# Altium integrated library Altium_WCAP-CSGP_rev24b.IntLib: 1002 symbols (part 6 of 21)
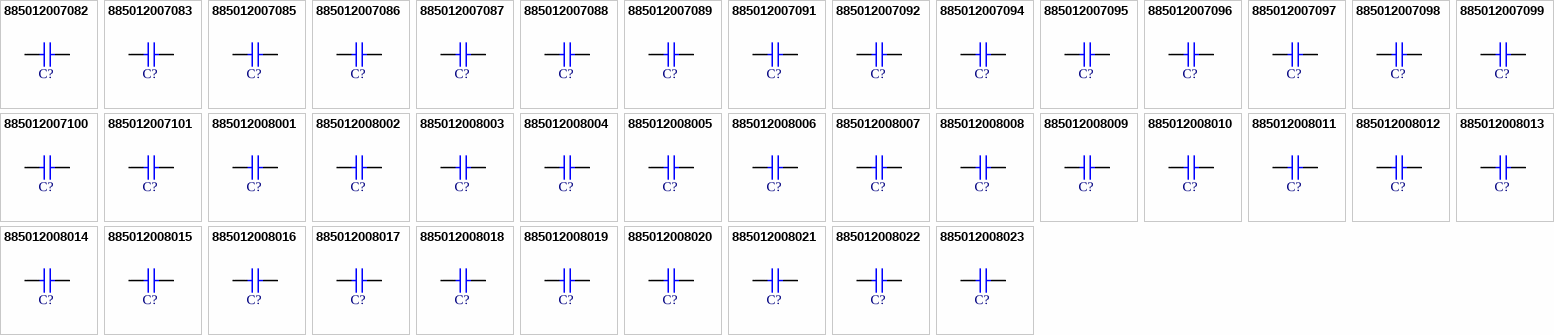
[diagram p30: symbols 885012007082 to 885012008023]

## 885012007085
designator C?, comment 330pF  (value not drawn)
WCAP-CSGP Multilayer Ceramic Chip Capacitor, General Purpose, size 0805, NP0, 330pF, 100VDC; Manufacturer Part Number: 885012007085; Manufacturer: Wurth Elektronik; Case/Size Code: 0805; Capacitance Tolerance: +/-5%; Insulation Resistance: 10GOhm; Q Factor: 1000; Rated Voltage (DC): 100V; Technical Reference: NP00805331J100DFCT10000; Category: Multilayer Ceramic Chip Capacitors; Match Code: WCAP-CSGP; ComponentLink1Description: Website Link; ComponentLink1URL: https://www.we-online.com/redexpert/article/885012007085?ad; ComponentLink2Description: Datasheet Link; ComponentLink2URL: https://www.we-online.com/redexpert/spec/885012007085?ad; Mount: Surface Mount; Operating Temperature Max: 125°C; Operating Temperature Min: -55°C; Packaging: Tape and Reel; Length: 2mm; Width: 1.25mm; Height: 0.6mm; Capacitance: 330pF; Ceramic Type: NP0
footprint WCAP-CSGP_0805_L2W1.25H0.6_Reflow
footprint WCAP-CSGP_0805_L2W1.25H0.6_Wave
simulation model 0805_885012007085_330pF
pins: 1, 2

## 885012007086
designator C?, comment 470pF  (value not drawn)
WCAP-CSGP Multilayer Ceramic Chip Capacitor, General Purpose, size 0805, NP0, 470pF, 100VDC; Manufacturer Part Number: 885012007086; Manufacturer: Wurth Elektronik; Case/Size Code: 0805; Capacitance Tolerance: +/-5%; Insulation Resistance: 10GOhm; Q Factor: 1000; Rated Voltage (DC): 100V; Technical Reference: NP00805471J100DFCT10000; Category: Multilayer Ceramic Chip Capacitors; Match Code: WCAP-CSGP; ComponentLink1Description: Website Link; ComponentLink1URL: https://www.we-online.com/redexpert/article/885012007086?ad; ComponentLink2Description: Datasheet Link; ComponentLink2URL: https://www.we-online.com/redexpert/spec/885012007086?ad; Mount: Surface Mount; Operating Temperature Max: 125°C; Operating Temperature Min: -55°C; Packaging: Tape and Reel; Length: 2mm; Width: 1.25mm; Height: 0.8mm; Capacitance: 470pF; Ceramic Type: NP0
footprint WCAP-CSGP_0805_L2W1.25H0.8_Reflow
footprint WCAP-CSGP_0805_L2W1.25H0.8_Wave
simulation model 0805_885012007086_470pF
pins: 1, 2

## 885012007087
designator C?, comment 680pF  (value not drawn)
WCAP-CSGP Multilayer Ceramic Chip Capacitor, General Purpose, size 0805, NP0, 680pF, 100VDC; Manufacturer Part Number: 885012007087; Manufacturer: Wurth Elektronik; Case/Size Code: 0805; Capacitance Tolerance: +/-5%; Insulation Resistance: 10GOhm; Q Factor: 1000; Rated Voltage (DC): 100V; Technical Reference: NP00805681J100DFCT10000; Category: Multilayer Ceramic Chip Capacitors; Match Code: WCAP-CSGP; ComponentLink1Description: Website Link; ComponentLink1URL: https://www.we-online.com/redexpert/article/885012007087?ad; ComponentLink2Description: Datasheet Link; ComponentLink2URL: https://www.we-online.com/redexpert/spec/885012007087?ad; Mount: Surface Mount; Operating Temperature Max: 125°C; Operating Temperature Min: -55°C; Packaging: Tape and Reel; Length: 2mm; Width: 1.25mm; Height: 0.8mm; Capacitance: 680pF; Ceramic Type: NP0
footprint WCAP-CSGP_0805_L2W1.25H0.8_Reflow
footprint WCAP-CSGP_0805_L2W1.25H0.8_Wave
simulation model 0805_885012007087_680pF
pins: 1, 2

## 885012007088
designator C?, comment 1nF  (value not drawn)
WCAP-CSGP Multilayer Ceramic Chip Capacitor, General Purpose, size 0805, NP0, 1nF, 100VDC; Manufacturer Part Number: 885012007088; Manufacturer: Wurth Elektronik; Case/Size Code: 0805; Capacitance Tolerance: +/-5%; Insulation Resistance: 10GOhm; Q Factor: 1000; Rated Voltage (DC): 100V; Technical Reference: NP00805102J100DFCT10000; Category: Multilayer Ceramic Chip Capacitors; Match Code: WCAP-CSGP; ComponentLink1Description: Website Link; ComponentLink1URL: https://www.we-online.com/redexpert/article/885012007088?ad; ComponentLink2Description: Datasheet Link; ComponentLink2URL: https://www.we-online.com/redexpert/spec/885012007088?ad; Mount: Surface Mount; Operating Temperature Max: 125°C; Operating Temperature Min: -55°C; Packaging: Tape and Reel; Length: 2mm; Width: 1.25mm; Height: 0.8mm; Capacitance: 1nF; Ceramic Type: NP0
footprint WCAP-CSGP_0805_L2W1.25H0.8_Reflow
footprint WCAP-CSGP_0805_L2W1.25H0.8_Wave
simulation model 0805_885012007088_1nF
pins: 1, 2

## 885012007089
designator C?, comment 1.5nF  (value not drawn)
WCAP-CSGP Multilayer Ceramic Chip Capacitor, General Purpose, size 0805, NP0, 1.5nF, 100VDC; Manufacturer Part Number: 885012007089; Manufacturer: Wurth Elektronik; Case/Size Code: 0805; Capacitance Tolerance: +/-5%; Insulation Resistance: 10GOhm; Q Factor: 1000; Rated Voltage (DC): 100V; Technical Reference: NP00805152J100DFCT10000; Category: Multilayer Ceramic Chip Capacitors; Match Code: WCAP-CSGP; ComponentLink1Description: Website Link; ComponentLink1URL: https://www.we-online.com/redexpert/article/885012007089?ad; ComponentLink2Description: Datasheet Link; ComponentLink2URL: https://www.we-online.com/redexpert/spec/885012007089?ad; Mount: Surface Mount; Operating Temperature Max: 125°C; Operating Temperature Min: -55°C; Packaging: Tape and Reel; Length: 2mm; Width: 1.25mm; Height: 0.8mm; Capacitance: 1.5nF; Ceramic Type: NP0
footprint WCAP-CSGP_0805_L2W1.25H0.8_Reflow
footprint WCAP-CSGP_0805_L2W1.25H0.8_Wave
simulation model 0805_885012007089_1.5nF
pins: 1, 2

## 885012007091
designator C?, comment 3.3nF  (value not drawn)
WCAP-CSGP Multilayer Ceramic Chip Capacitor, General Purpose, size 0805, NP0, 3.3nF, 100VDC; Manufacturer Part Number: 885012007091; Manufacturer: Wurth Elektronik; Case/Size Code: 0805; Capacitance Tolerance: +/-5%; Insulation Resistance: 10GOhm; Q Factor: 1000; Rated Voltage (DC): 100V; Technical Reference: NP00805332J100DFCT10000; Category: Multilayer Ceramic Chip Capacitors; Match Code: WCAP-CSGP; ComponentLink1Description: Website Link; ComponentLink1URL: https://www.we-online.com/redexpert/article/885012007091?ad; ComponentLink2Description: Datasheet Link; ComponentLink2URL: https://www.we-online.com/redexpert/spec/885012007091?ad; Mount: Surface Mount; Operating Temperature Max: 125°C; Operating Temperature Min: -55°C; Packaging: Tape and Reel; Length: 2mm; Width: 1.25mm; Height: 1.25mm; Capacitance: 3.3nF; Ceramic Type: NP0
footprint WCAP-CSGP_0805_L2W1.25H1.25
simulation model 0805_885012007091_3.3nF
pins: 1, 2

## 885012007092
designator C?, comment 4.7nF  (value not drawn)
WCAP-CSGP Multilayer Ceramic Chip Capacitor, General Purpose, size 0805, NP0, 4.7nF, 100VDC; Manufacturer Part Number: 885012007092; Manufacturer: Wurth Elektronik; Case/Size Code: 0805; Capacitance Tolerance: +/-5%; Insulation Resistance: 10GOhm; Q Factor: 1000; Rated Voltage (DC): 100V; Technical Reference: NP00805472J100DFCT10000; Category: Multilayer Ceramic Chip Capacitors; Match Code: WCAP-CSGP; ComponentLink1Description: Website Link; ComponentLink1URL: https://www.we-online.com/redexpert/article/885012007092?ad; ComponentLink2Description: Datasheet Link; ComponentLink2URL: https://www.we-online.com/redexpert/spec/885012007092?ad; Mount: Surface Mount; Operating Temperature Max: 125°C; Operating Temperature Min: -55°C; Packaging: Tape and Reel; Length: 2mm; Width: 1.25mm; Height: 1.25mm; Capacitance: 4.7nF; Ceramic Type: NP0
footprint WCAP-CSGP_0805_L2W1.25H1.25
simulation model 0805_885012007092_4.7nF
pins: 1, 2

## 885012007094
designator C?, comment 1pF  (value not drawn)
WCAP-CSGP Multilayer Ceramic Chip Capacitor, General Purpose, size 0805, NP0, 1pF, 100VDC; Manufacturer Part Number: 885012007094; Manufacturer: Wurth Elektronik; Case/Size Code: 0805; Capacitance Tolerance: +/-0.25pF; Insulation Resistance: 10GOhm; Q Factor: 420; Rated Voltage (DC): 100V; Technical Reference: NP008051R0C100DFCT10000; Category: Multilayer Ceramic Chip Capacitors; Match Code: WCAP-CSGP; ComponentLink1Description: Website Link; ComponentLink1URL: https://www.we-online.com/redexpert/article/885012007094?ad; ComponentLink2Description: Datasheet Link; ComponentLink2URL: https://www.we-online.com/redexpert/spec/885012007094?ad; Mount: Surface Mount; Operating Temperature Max: 125°C; Operating Temperature Min: -55°C; Packaging: Tape and Reel; Length: 2mm; Width: 1.25mm; Height: 0.6mm; Capacitance: 1pF; Ceramic Type: NP0
footprint WCAP-CSGP_0805_L2W1.25H0.6_Reflow
footprint WCAP-CSGP_0805_L2W1.25H0.6_Wave
pins: 1, 2

## 885012007095
designator C?, comment 3.3pF  (value not drawn)
WCAP-CSGP Multilayer Ceramic Chip Capacitor, General Purpose, size 0805, NP0, 3.3pF, 100VDC; Manufacturer Part Number: 885012007095; Manufacturer: Wurth Elektronik; Case/Size Code: 0805; Capacitance Tolerance: +/-0.25pF; Insulation Resistance: 10GOhm; Q Factor: 466; Rated Voltage (DC): 100V; Technical Reference: NP008053R3C100DFCT10000; Category: Multilayer Ceramic Chip Capacitors; Match Code: WCAP-CSGP; ComponentLink1Description: Website Link; ComponentLink1URL: https://www.we-online.com/redexpert/article/885012007095?ad; ComponentLink2Description: Datasheet Link; ComponentLink2URL: https://www.we-online.com/redexpert/spec/885012007095?ad; Mount: Surface Mount; Operating Temperature Max: 125°C; Operating Temperature Min: -55°C; Packaging: Tape and Reel; Length: 2mm; Width: 1.25mm; Height: 0.6mm; Capacitance: 3.3pF; Ceramic Type: NP0
footprint WCAP-CSGP_0805_L2W1.25H0.6_Reflow
footprint WCAP-CSGP_0805_L2W1.25H0.6_Wave
pins: 1, 2

## 885012007096
designator C?, comment 4.7pF  (value not drawn)
WCAP-CSGP Multilayer Ceramic Chip Capacitor, General Purpose, size 0805, NP0, 4.7pF, 100VDC; Manufacturer Part Number: 885012007096; Manufacturer: Wurth Elektronik; Case/Size Code: 0805; Capacitance Tolerance: +/-0.25pF; Insulation Resistance: 10GOhm; Q Factor: 494; Rated Voltage (DC): 100V; Technical Reference: NP008054R7C100DFCT10000; Category: Multilayer Ceramic Chip Capacitors; Match Code: WCAP-CSGP; ComponentLink1Description: Website Link; ComponentLink1URL: https://www.we-online.com/redexpert/article/885012007096?ad; ComponentLink2Description: Datasheet Link; ComponentLink2URL: https://www.we-online.com/redexpert/spec/885012007096?ad; Mount: Surface Mount; Operating Temperature Max: 125°C; Operating Temperature Min: -55°C; Packaging: Tape and Reel; Length: 2mm; Width: 1.25mm; Height: 0.6mm; Capacitance: 4.7pF; Ceramic Type: NP0
footprint WCAP-CSGP_0805_L2W1.25H0.6_Reflow
footprint WCAP-CSGP_0805_L2W1.25H0.6_Wave
pins: 1, 2

## 885012007097
designator C?, comment 1.5pF  (value not drawn)
WCAP-CSGP Multilayer Ceramic Chip Capacitor, General Purpose, size 0805, NP0, 1.5pF, 100VDC; Manufacturer Part Number: 885012007097; Manufacturer: Wurth Elektronik; Case/Size Code: 0805; Capacitance Tolerance: +/-0.25pF; Insulation Resistance: 10GOhm; Q Factor: 430; Rated Voltage (DC): 100V; Technical Reference: NP008051R5C100DFCT10000; Category: Multilayer Ceramic Chip Capacitors; Match Code: WCAP-CSGP; ComponentLink1Description: Website Link; ComponentLink1URL: https://www.we-online.com/redexpert/article/885012007097?ad; ComponentLink2Description: Datasheet Link; ComponentLink2URL: https://www.we-online.com/redexpert/spec/885012007097?ad; Mount: Surface Mount; Operating Temperature Max: 125°C; Operating Temperature Min: -55°C; Packaging: Tape and Reel; Length: 2mm; Width: 1.25mm; Height: 0.6mm; Capacitance: 1.5pF; Ceramic Type: NP0
footprint WCAP-CSGP_0805_L2W1.25H0.6_Reflow
footprint WCAP-CSGP_0805_L2W1.25H0.6_Wave
pins: 1, 2

## 885012007098
designator C?, comment 8.2pF  (value not drawn)
WCAP-CSGP Multilayer Ceramic Chip Capacitor, General Purpose, size 0805, NP0, 8.2pF, 100VDC; Manufacturer Part Number: 885012007098; Manufacturer: Wurth Elektronik; Case/Size Code: 0805; Capacitance Tolerance: +/-0.5pF; Insulation Resistance: 10GOhm; Q Factor: 564; Rated Voltage (DC): 100V; Technical Reference: NP008058R2D100DFCT10000; Category: Multilayer Ceramic Chip Capacitors; Match Code: WCAP-CSGP; ComponentLink1Description: Website Link; ComponentLink1URL: https://www.we-online.com/redexpert/article/885012007098?ad; ComponentLink2Description: Datasheet Link; ComponentLink2URL: https://www.we-online.com/redexpert/spec/885012007098?ad; Mount: Surface Mount; Operating Temperature Max: 125°C; Operating Temperature Min: -55°C; Packaging: Tape and Reel; Length: 2mm; Width: 1.25mm; Height: 0.6mm; Capacitance: 8.2pF; Ceramic Type: NP0
footprint WCAP-CSGP_0805_L2W1.25H0.6_Reflow
footprint WCAP-CSGP_0805_L2W1.25H0.6_Wave
pins: 1, 2

## 885012007099
designator C?, comment 0.5pF  (value not drawn)
WCAP-CSGP Multilayer Ceramic Chip Capacitor, General Purpose, size 0805, NP0, 0.5pF, 100VDC; Manufacturer Part Number: 885012007099; Manufacturer: Wurth Elektronik; Case/Size Code: 0805; Capacitance Tolerance: +/-0.25pF; Insulation Resistance: 10GOhm; Q Factor: 410; Rated Voltage (DC): 100V; Technical Reference: NP00805R50C100DFCT10000; Category: Multilayer Ceramic Chip Capacitors; Match Code: WCAP-CSGP; ComponentLink1Description: Website Link; ComponentLink1URL: https://www.we-online.com/redexpert/article/885012007099?ad; ComponentLink2Description: Datasheet Link; ComponentLink2URL: https://www.we-online.com/redexpert/spec/885012007099?ad; Mount: Surface Mount; Operating Temperature Max: 125°C; Operating Temperature Min: -55°C; Packaging: Tape and Reel; Length: 2mm; Width: 1.25mm; Height: 0.6mm; Capacitance: 0.5pF; Ceramic Type: NP0
footprint WCAP-CSGP_0805_L2W1.25H0.6_Reflow
footprint WCAP-CSGP_0805_L2W1.25H0.6_Wave
pins: 1, 2

## 885012007100
designator C?, comment 2.2pF  (value not drawn)
WCAP-CSGP Multilayer Ceramic Chip Capacitor, General Purpose, size 0805, NP0, 2.2pF, 100VDC; Manufacturer Part Number: 885012007100; Manufacturer: Wurth Elektronik; Case/Size Code: 0805; Capacitance Tolerance: +/-0.25pF; Insulation Resistance: 10GOhm; Q Factor: 444; Rated Voltage (DC): 100V; Technical Reference: NP008052R2C100DFCT10000; Category: Multilayer Ceramic Chip Capacitors; Match Code: WCAP-CSGP; ComponentLink1Description: Website Link; ComponentLink1URL: https://www.we-online.com/redexpert/article/885012007100?ad; ComponentLink2Description: Datasheet Link; ComponentLink2URL: https://www.we-online.com/redexpert/spec/885012007100?ad; Mount: Surface Mount; Operating Temperature Max: 125°C; Operating Temperature Min: -55°C; Packaging: Tape and Reel; Length: 2mm; Width: 1.25mm; Height: 0.6mm; Capacitance: 2.2pF; Ceramic Type: NP0
footprint WCAP-CSGP_0805_L2W1.25H0.6_Reflow
footprint WCAP-CSGP_0805_L2W1.25H0.6_Wave
pins: 1, 2

## 885012007101
designator C?, comment 5pF  (value not drawn)
WCAP-CSGP Multilayer Ceramic Chip Capacitor, General Purpose, size 0805, NP0, 5pF, 100VDC; Manufacturer Part Number: 885012007101; Manufacturer: Wurth Elektronik; Case/Size Code: 0805; Capacitance Tolerance: +/-0.25pF; Insulation Resistance: 10GOhm; Q Factor: 500; Rated Voltage (DC): 100V; Technical Reference: NP008055R0C100DFCT10000; Category: Multilayer Ceramic Chip Capacitors; Match Code: WCAP-CSGP; ComponentLink1Description: Website Link; ComponentLink1URL: https://www.we-online.com/redexpert/article/885012007101?ad; ComponentLink2Description: Datasheet Link; ComponentLink2URL: https://www.we-online.com/redexpert/spec/885012007101?ad; Mount: Surface Mount; Operating Temperature Max: 125°C; Operating Temperature Min: -55°C; Packaging: Tape and Reel; Length: 2mm; Width: 1.25mm; Height: 0.6mm; Capacitance: 5pF; Ceramic Type: NP0
footprint WCAP-CSGP_0805_L2W1.25H0.6_Reflow
footprint WCAP-CSGP_0805_L2W1.25H0.6_Wave
pins: 1, 2

## 885012008001
designator C?, comment 10pF  (value not drawn)
WCAP-CSGP Multilayer Ceramic Chip Capacitor, General Purpose, size 1206, NP0, 10pF, 10VDC; Manufacturer Part Number: 885012008001; Manufacturer: Wurth Elektronik; Case/Size Code: 1206; Capacitance Tolerance: +/-5%; Insulation Resistance: 10GOhm; Q Factor: 600; Rated Voltage (DC): 10V; Technical Reference: NP01206100J010DFCT10000; Category: Multilayer Ceramic Chip Capacitors; Match Code: WCAP-CSGP; ComponentLink1Description: Website Link; ComponentLink1URL: https://www.we-online.com/redexpert/article/885012008001?ad; ComponentLink2Description: Datasheet Link; ComponentLink2URL: https://www.we-online.com/redexpert/spec/885012008001?ad; Mount: Surface Mount; Operating Temperature Max: 125°C; Operating Temperature Min: -55°C; Packaging: Tape and Reel; Length: 3.2mm; Width: 1.6mm; Height: 0.8mm; Capacitance: 10pF; Ceramic Type: NP0
footprint WCAP-CSGP_1206_L3.2W1.6H0.8
simulation model 1206_885012008001_10pF
pins: 1, 2

## 885012008002
designator C?, comment 22pF  (value not drawn)
WCAP-CSGP Multilayer Ceramic Chip Capacitor, General Purpose, size 1206, NP0, 22pF, 10VDC; Manufacturer Part Number: 885012008002; Manufacturer: Wurth Elektronik; Case/Size Code: 1206; Capacitance Tolerance: +/-5%; Insulation Resistance: 10GOhm; Q Factor: 840; Rated Voltage (DC): 10V; Technical Reference: NP01206220J010DFCT10000; Category: Multilayer Ceramic Chip Capacitors; Match Code: WCAP-CSGP; ComponentLink1Description: Website Link; ComponentLink1URL: https://www.we-online.com/redexpert/article/885012008002?ad; ComponentLink2Description: Datasheet Link; ComponentLink2URL: https://www.we-online.com/redexpert/spec/885012008002?ad; Mount: Surface Mount; Operating Temperature Max: 125°C; Operating Temperature Min: -55°C; Packaging: Tape and Reel; Length: 3.2mm; Width: 1.6mm; Height: 0.8mm; Capacitance: 22pF; Ceramic Type: NP0
footprint WCAP-CSGP_1206_L3.2W1.6H0.8
simulation model 1206_885012008002_22pF
pins: 1, 2

## 885012008003
designator C?, comment 47pF  (value not drawn)
WCAP-CSGP Multilayer Ceramic Chip Capacitor, General Purpose, size 1206, NP0, 47pF, 10VDC; Manufacturer Part Number: 885012008003; Manufacturer: Wurth Elektronik; Case/Size Code: 1206; Capacitance Tolerance: +/-5%; Insulation Resistance: 10GOhm; Q Factor: 1000; Rated Voltage (DC): 10V; Technical Reference: NP01206470J010DFCT10000; Category: Multilayer Ceramic Chip Capacitors; Match Code: WCAP-CSGP; ComponentLink1Description: Website Link; ComponentLink1URL: https://www.we-online.com/redexpert/article/885012008003?ad; ComponentLink2Description: Datasheet Link; ComponentLink2URL: https://www.we-online.com/redexpert/spec/885012008003?ad; Mount: Surface Mount; Operating Temperature Max: 125°C; Operating Temperature Min: -55°C; Packaging: Tape and Reel; Length: 3.2mm; Width: 1.6mm; Height: 0.8mm; Capacitance: 47pF; Ceramic Type: NP0
footprint WCAP-CSGP_1206_L3.2W1.6H0.8
simulation model 1206_885012008003_47pF
pins: 1, 2

## 885012008004
designator C?, comment 100pF  (value not drawn)
WCAP-CSGP Multilayer Ceramic Chip Capacitor, General Purpose, size 1206, NP0, 100pF, 10VDC; Manufacturer Part Number: 885012008004; Manufacturer: Wurth Elektronik; Case/Size Code: 1206; Capacitance Tolerance: +/-5%; Insulation Resistance: 10GOhm; Q Factor: 1000; Rated Voltage (DC): 10V; Technical Reference: NP01206101J010DFCT10000; Category: Multilayer Ceramic Chip Capacitors; Match Code: WCAP-CSGP; ComponentLink1Description: Website Link; ComponentLink1URL: https://www.we-online.com/redexpert/article/885012008004?ad; ComponentLink2Description: Datasheet Link; ComponentLink2URL: https://www.we-online.com/redexpert/spec/885012008004?ad; Mount: Surface Mount; Operating Temperature Max: 125°C; Operating Temperature Min: -55°C; Packaging: Tape and Reel; Length: 3.2mm; Width: 1.6mm; Height: 0.8mm; Capacitance: 100pF; Ceramic Type: NP0
footprint WCAP-CSGP_1206_L3.2W1.6H0.8
simulation model 1206_885012008004_100pF
pins: 1, 2

## 885012008005
designator C?, comment 470pF  (value not drawn)
WCAP-CSGP Multilayer Ceramic Chip Capacitor, General Purpose, size 1206, NP0, 470pF, 10VDC; Manufacturer Part Number: 885012008005; Manufacturer: Wurth Elektronik; Case/Size Code: 1206; Capacitance Tolerance: +/-5%; Insulation Resistance: 10GOhm; Q Factor: 1000; Rated Voltage (DC): 10V; Technical Reference: NP01206471J010DFCT10000; Category: Multilayer Ceramic Chip Capacitors; Match Code: WCAP-CSGP; ComponentLink1Description: Website Link; ComponentLink1URL: https://www.we-online.com/redexpert/article/885012008005?ad; ComponentLink2Description: Datasheet Link; ComponentLink2URL: https://www.we-online.com/redexpert/spec/885012008005?ad; Mount: Surface Mount; Operating Temperature Max: 125°C; Operating Temperature Min: -55°C; Packaging: Tape and Reel; Length: 3.2mm; Width: 1.6mm; Height: 0.8mm; Capacitance: 470pF; Ceramic Type: NP0
footprint WCAP-CSGP_1206_L3.2W1.6H0.8
simulation model 1206_885012008005_470pF
pins: 1, 2

## 885012008006
designator C?, comment 2.2nF  (value not drawn)
WCAP-CSGP Multilayer Ceramic Chip Capacitor, General Purpose, size 1206, NP0, 2.2nF, 10VDC; Manufacturer Part Number: 885012008006; Manufacturer: Wurth Elektronik; Case/Size Code: 1206; Capacitance Tolerance: +/-5%; Insulation Resistance: 10GOhm; Q Factor: 1000; Rated Voltage (DC): 10V; Technical Reference: NP01206222J010DFCT10000; Category: Multilayer Ceramic Chip Capacitors; Match Code: WCAP-CSGP; ComponentLink1Description: Website Link; ComponentLink1URL: https://www.we-online.com/redexpert/article/885012008006?ad; ComponentLink2Description: Datasheet Link; ComponentLink2URL: https://www.we-online.com/redexpert/spec/885012008006?ad; Mount: Surface Mount; Operating Temperature Max: 125°C; Operating Temperature Min: -55°C; Packaging: Tape and Reel; Length: 3.2mm; Width: 1.6mm; Height: 0.8mm; Capacitance: 2.2nF; Ceramic Type: NP0
footprint WCAP-CSGP_1206_L3.2W1.6H0.8
simulation model 1206_885012008006_2.2nF
pins: 1, 2

## 885012008007
designator C?, comment 6.8nF  (value not drawn)
WCAP-CSGP Multilayer Ceramic Chip Capacitor, General Purpose, size 1206, NP0, 6.8nF, 10VDC; Manufacturer Part Number: 885012008007; Manufacturer: Wurth Elektronik; Case/Size Code: 1206; Capacitance Tolerance: +/-5%; Insulation Resistance: 10GOhm; Q Factor: 1000; Rated Voltage (DC): 10V; Technical Reference: NP01206682J010DFCT10000; Category: Multilayer Ceramic Chip Capacitors; Match Code: WCAP-CSGP; ComponentLink1Description: Website Link; ComponentLink1URL: https://www.we-online.com/redexpert/article/885012008007?ad; ComponentLink2Description: Datasheet Link; ComponentLink2URL: https://www.we-online.com/redexpert/spec/885012008007?ad; Mount: Surface Mount; Operating Temperature Max: 125°C; Operating Temperature Min: -55°C; Packaging: Tape and Reel; Length: 3.2mm; Width: 1.6mm; Height: 0.95mm; Capacitance: 6.8nF; Ceramic Type: NP0
footprint WCAP-CSGP_1206_L3.2W1.6H0.95
simulation model 1206_885012008007_6.8nF
pins: 1, 2

## 885012008008
designator C?, comment 10nF  (value not drawn)
WCAP-CSGP Multilayer Ceramic Chip Capacitor, General Purpose, size 1206, NP0, 10nF, 10VDC; Manufacturer Part Number: 885012008008; Manufacturer: Wurth Elektronik; Case/Size Code: 1206; Capacitance Tolerance: +/-5%; Insulation Resistance: 10GOhm; Q Factor: 1000; Rated Voltage (DC): 10V; Technical Reference: NP01206103J010DFCT10000; Category: Multilayer Ceramic Chip Capacitors; Match Code: WCAP-CSGP; ComponentLink1Description: Website Link; ComponentLink1URL: https://www.we-online.com/redexpert/article/885012008008?ad; ComponentLink2Description: Datasheet Link; ComponentLink2URL: https://www.we-online.com/redexpert/spec/885012008008?ad; Mount: Surface Mount; Operating Temperature Max: 125°C; Operating Temperature Min: -55°C; Packaging: Tape and Reel; Length: 3.2mm; Width: 1.6mm; Height: 1.25mm; Capacitance: 10nF; Ceramic Type: NP0
footprint WCAP-CSGP_1206_L3.2W1.6H1.25
simulation model 1206_885012008008_10nF
pins: 1, 2

## 885012008009
designator C?, comment 22nF  (value not drawn)
WCAP-CSGP Multilayer Ceramic Chip Capacitor, General Purpose, size 1206, NP0, 22nF, 10VDC; Manufacturer Part Number: 885012008009; Manufacturer: Wurth Elektronik; Case/Size Code: 1206; Capacitance Tolerance: +/-5%; Insulation Resistance: 10GOhm; Q Factor: 1000; Rated Voltage (DC): 10V; Technical Reference: NP01206223J010DFCT10000; Category: Multilayer Ceramic Chip Capacitors; Match Code: WCAP-CSGP; ComponentLink1Description: Website Link; ComponentLink1URL: https://www.we-online.com/redexpert/article/885012008009?ad; ComponentLink2Description: Datasheet Link; ComponentLink2URL: https://www.we-online.com/redexpert/spec/885012008009?ad; Mount: Surface Mount; Operating Temperature Max: 125°C; Operating Temperature Min: -55°C; Packaging: Tape and Reel; Length: 3.2mm; Width: 1.6mm; Height: 1.6mm; Capacitance: 22nF; Ceramic Type: NP0
footprint WCAP-CSGP_1206_L3.2W1.6H1.6
simulation model 1206_885012008009_22nF
pins: 1, 2

## 885012008010
designator C?, comment 33nF  (value not drawn)
WCAP-CSGP Multilayer Ceramic Chip Capacitor, General Purpose, size 1206, NP0, 33nF, 10VDC; Manufacturer Part Number: 885012008010; Manufacturer: Wurth Elektronik; Case/Size Code: 1206; Capacitance Tolerance: +/-5%; Insulation Resistance: 10GOhm; Q Factor: 1000; Rated Voltage (DC): 10V; Technical Reference: NP01206333J010DFCT10000; Category: Multilayer Ceramic Chip Capacitors; Match Code: WCAP-CSGP; ComponentLink1Description: Website Link; ComponentLink1URL: https://www.we-online.com/redexpert/article/885012008010?ad; ComponentLink2Description: Datasheet Link; ComponentLink2URL: https://www.we-online.com/redexpert/spec/885012008010?ad; Mount: Surface Mount; Operating Temperature Max: 125°C; Operating Temperature Min: -55°C; Packaging: Tape and Reel; Length: 3.2mm; Width: 1.6mm; Height: 1.6mm; Capacitance: 33nF; Ceramic Type: NP0
footprint WCAP-CSGP_1206_L3.2W1.6H1.6
simulation model 1206_885012008010_33nF
pins: 1, 2

## 885012008011
designator C?, comment 22pF  (value not drawn)
WCAP-CSGP Multilayer Ceramic Chip Capacitor, General Purpose, size 1206, NP0, 22pF, 16VDC; Manufacturer Part Number: 885012008011; Manufacturer: Wurth Elektronik; Case/Size Code: 1206; Capacitance Tolerance: +/-5%; Insulation Resistance: 10GOhm; Q Factor: 840; Rated Voltage (DC): 16V; Technical Reference: NP01206220J016DFCT10000; Category: Multilayer Ceramic Chip Capacitors; Match Code: WCAP-CSGP; ComponentLink1Description: Website Link; ComponentLink1URL: https://www.we-online.com/redexpert/article/885012008011?ad; ComponentLink2Description: Datasheet Link; ComponentLink2URL: https://www.we-online.com/redexpert/spec/885012008011?ad; Mount: Surface Mount; Operating Temperature Max: 125°C; Operating Temperature Min: -55°C; Packaging: Tape and Reel; Length: 3.2mm; Width: 1.6mm; Height: 0.8mm; Capacitance: 22pF; Ceramic Type: NP0
footprint WCAP-CSGP_1206_L3.2W1.6H0.8
simulation model 1206_885012008011_22pF
pins: 1, 2

## 885012008012
designator C?, comment 100pF  (value not drawn)
WCAP-CSGP Multilayer Ceramic Chip Capacitor, General Purpose, size 1206, NP0, 100pF, 16VDC; Manufacturer Part Number: 885012008012; Manufacturer: Wurth Elektronik; Case/Size Code: 1206; Capacitance Tolerance: +/-5%; Insulation Resistance: 10GOhm; Q Factor: 1000; Rated Voltage (DC): 16V; Technical Reference: NP01206101J016DFCT10000; Category: Multilayer Ceramic Chip Capacitors; Match Code: WCAP-CSGP; ComponentLink1Description: Website Link; ComponentLink1URL: https://www.we-online.com/redexpert/article/885012008012?ad; ComponentLink2Description: Datasheet Link; ComponentLink2URL: https://www.we-online.com/redexpert/spec/885012008012?ad; Mount: Surface Mount; Operating Temperature Max: 125°C; Operating Temperature Min: -55°C; Packaging: Tape and Reel; Length: 3.2mm; Width: 1.6mm; Height: 0.8mm; Capacitance: 100pF; Ceramic Type: NP0
footprint WCAP-CSGP_1206_L3.2W1.6H0.8
simulation model 1206_885012008012_100pF
pins: 1, 2

## 885012008013
designator C?, comment 150pF  (value not drawn)
WCAP-CSGP Multilayer Ceramic Chip Capacitor, General Purpose, size 1206, NP0, 150pF, 16VDC; Manufacturer Part Number: 885012008013; Manufacturer: Wurth Elektronik; Case/Size Code: 1206; Capacitance Tolerance: +/-5%; Insulation Resistance: 10GOhm; Q Factor: 1000; Rated Voltage (DC): 16V; Technical Reference: NP01206151J016DFCT10000; Category: Multilayer Ceramic Chip Capacitors; Match Code: WCAP-CSGP; ComponentLink1Description: Website Link; ComponentLink1URL: https://www.we-online.com/redexpert/article/885012008013?ad; ComponentLink2Description: Datasheet Link; ComponentLink2URL: https://www.we-online.com/redexpert/spec/885012008013?ad; Mount: Surface Mount; Operating Temperature Max: 125°C; Operating Temperature Min: -55°C; Packaging: Tape and Reel; Length: 3.2mm; Width: 1.6mm; Height: 0.8mm; Capacitance: 150pF; Ceramic Type: NP0
footprint WCAP-CSGP_1206_L3.2W1.6H0.8
simulation model 1206_885012008013_150pF
pins: 1, 2

## 885012008014
designator C?, comment 220pF  (value not drawn)
WCAP-CSGP Multilayer Ceramic Chip Capacitor, General Purpose, size 1206, NP0, 220pF, 16VDC; Manufacturer Part Number: 885012008014; Manufacturer: Wurth Elektronik; Case/Size Code: 1206; Capacitance Tolerance: +/-5%; Insulation Resistance: 10GOhm; Q Factor: 1000; Rated Voltage (DC): 16V; Technical Reference: NP01206221J016DFCT10000; Category: Multilayer Ceramic Chip Capacitors; Match Code: WCAP-CSGP; ComponentLink1Description: Website Link; ComponentLink1URL: https://www.we-online.com/redexpert/article/885012008014?ad; ComponentLink2Description: Datasheet Link; ComponentLink2URL: https://www.we-online.com/redexpert/spec/885012008014?ad; Mount: Surface Mount; Operating Temperature Max: 125°C; Operating Temperature Min: -55°C; Packaging: Tape and Reel; Length: 3.2mm; Width: 1.6mm; Height: 0.8mm; Capacitance: 220pF; Ceramic Type: NP0
footprint WCAP-CSGP_1206_L3.2W1.6H0.8
simulation model 1206_885012008014_220pF
pins: 1, 2

## 885012008015
designator C?, comment 2.2nF  (value not drawn)
WCAP-CSGP Multilayer Ceramic Chip Capacitor, General Purpose, size 1206, NP0, 2.2nF, 16VDC; Manufacturer Part Number: 885012008015; Manufacturer: Wurth Elektronik; Case/Size Code: 1206; Capacitance Tolerance: +/-5%; Insulation Resistance: 10GOhm; Q Factor: 1000; Rated Voltage (DC): 16V; Technical Reference: NP01206222J016DFCT10000; Category: Multilayer Ceramic Chip Capacitors; Match Code: WCAP-CSGP; ComponentLink1Description: Website Link; ComponentLink1URL: https://www.we-online.com/redexpert/article/885012008015?ad; ComponentLink2Description: Datasheet Link; ComponentLink2URL: https://www.we-online.com/redexpert/spec/885012008015?ad; Mount: Surface Mount; Operating Temperature Max: 125°C; Operating Temperature Min: -55°C; Packaging: Tape and Reel; Length: 3.2mm; Width: 1.6mm; Height: 0.8mm; Capacitance: 2.2nF; Ceramic Type: NP0
footprint WCAP-CSGP_1206_L3.2W1.6H0.8
simulation model 1206_885012008015_2.2nF
pins: 1, 2

## 885012008016
designator C?, comment 6.8nF  (value not drawn)
WCAP-CSGP Multilayer Ceramic Chip Capacitor, General Purpose, size 1206, NP0, 6.8nF, 16VDC; Manufacturer Part Number: 885012008016; Manufacturer: Wurth Elektronik; Case/Size Code: 1206; Capacitance Tolerance: +/-5%; Insulation Resistance: 10GOhm; Q Factor: 1000; Rated Voltage (DC): 16V; Technical Reference: NP01206682J016DFCT10000; Category: Multilayer Ceramic Chip Capacitors; Match Code: WCAP-CSGP; ComponentLink1Description: Website Link; ComponentLink1URL: https://www.we-online.com/redexpert/article/885012008016?ad; ComponentLink2Description: Datasheet Link; ComponentLink2URL: https://www.we-online.com/redexpert/spec/885012008016?ad; Mount: Surface Mount; Operating Temperature Max: 125°C; Operating Temperature Min: -55°C; Packaging: Tape and Reel; Length: 3.2mm; Width: 1.6mm; Height: 0.95mm; Capacitance: 6.8nF; Ceramic Type: NP0
footprint WCAP-CSGP_1206_L3.2W1.6H0.95
simulation model 1206_885012008016_6.8nF
pins: 1, 2

## 885012008017
designator C?, comment 10nF  (value not drawn)
WCAP-CSGP Multilayer Ceramic Chip Capacitor, General Purpose, size 1206, NP0, 10nF, 16VDC; Manufacturer Part Number: 885012008017; Manufacturer: Wurth Elektronik; Case/Size Code: 1206; Capacitance Tolerance: +/-5%; Insulation Resistance: 10GOhm; Q Factor: 1000; Rated Voltage (DC): 16V; Technical Reference: NP01206103J016DFCT10000; Category: Multilayer Ceramic Chip Capacitors; Match Code: WCAP-CSGP; ComponentLink1Description: Website Link; ComponentLink1URL: https://www.we-online.com/redexpert/article/885012008017?ad; ComponentLink2Description: Datasheet Link; ComponentLink2URL: https://www.we-online.com/redexpert/spec/885012008017?ad; Mount: Surface Mount; Operating Temperature Max: 125°C; Operating Temperature Min: -55°C; Packaging: Tape and Reel; Length: 3.2mm; Width: 1.6mm; Height: 1.25mm; Capacitance: 10nF; Ceramic Type: NP0
footprint WCAP-CSGP_1206_L3.2W1.6H1.25
simulation model 1206_885012008017_10nF
pins: 1, 2

## 885012008018
designator C?, comment 2.2pF  (value not drawn)
WCAP-CSGP Multilayer Ceramic Chip Capacitor, General Purpose, size 1206, NP0, 2.2pF, 25VDC; Manufacturer Part Number: 885012008018; Manufacturer: Wurth Elektronik; Case/Size Code: 1206; Capacitance Tolerance: +/-0.5pF; Insulation Resistance: 10GOhm; Q Factor: 444; Rated Voltage (DC): 25V; Technical Reference: NP012062R2D025DFCT10000; Category: Multilayer Ceramic Chip Capacitors; Match Code: WCAP-CSGP; ComponentLink1Description: Website Link; ComponentLink1URL: https://www.we-online.com/redexpert/article/885012008018?ad; ComponentLink2Description: Datasheet Link; ComponentLink2URL: https://www.we-online.com/redexpert/spec/885012008018?ad; Mount: Surface Mount; Operating Temperature Max: 125°C; Operating Temperature Min: -55°C; Packaging: Tape and Reel; Length: 3.2mm; Width: 1.6mm; Height: 0.8mm; Capacitance: 2.2pF; Ceramic Type: NP0
footprint WCAP-CSGP_1206_L3.2W1.6H0.8
pins: 1, 2

## 885012008019
designator C?, comment 10pF  (value not drawn)
WCAP-CSGP Multilayer Ceramic Chip Capacitor, General Purpose, size 1206, NP0, 10pF, 25VDC; Manufacturer Part Number: 885012008019; Manufacturer: Wurth Elektronik; Case/Size Code: 1206; Capacitance Tolerance: +/-5%; Insulation Resistance: 10GOhm; Q Factor: 600; Rated Voltage (DC): 25V; Technical Reference: NP01206100J025DFCT10000; Category: Multilayer Ceramic Chip Capacitors; Match Code: WCAP-CSGP; ComponentLink1Description: Website Link; ComponentLink1URL: https://www.we-online.com/redexpert/article/885012008019?ad; ComponentLink2Description: Datasheet Link; ComponentLink2URL: https://www.we-online.com/redexpert/spec/885012008019?ad; Mount: Surface Mount; Operating Temperature Max: 125°C; Operating Temperature Min: -55°C; Packaging: Tape and Reel; Length: 3.2mm; Width: 1.6mm; Height: 0.8mm; Capacitance: 10pF; Ceramic Type: NP0
footprint WCAP-CSGP_1206_L3.2W1.6H0.8
simulation model 1206_885012008019_10pF
pins: 1, 2

## 885012008020
designator C?, comment 33pF  (value not drawn)
WCAP-CSGP Multilayer Ceramic Chip Capacitor, General Purpose, size 1206, NP0, 33pF, 25VDC; Manufacturer Part Number: 885012008020; Manufacturer: Wurth Elektronik; Case/Size Code: 1206; Capacitance Tolerance: +/-5%; Insulation Resistance: 10GOhm; Q Factor: 1000; Rated Voltage (DC): 25V; Technical Reference: NP01206330J025DFCT10000; Category: Multilayer Ceramic Chip Capacitors; Match Code: WCAP-CSGP; ComponentLink1Description: Website Link; ComponentLink1URL: https://www.we-online.com/redexpert/article/885012008020?ad; ComponentLink2Description: Datasheet Link; ComponentLink2URL: https://www.we-online.com/redexpert/spec/885012008020?ad; Mount: Surface Mount; Operating Temperature Max: 125°C; Operating Temperature Min: -55°C; Packaging: Tape and Reel; Length: 3.2mm; Width: 1.6mm; Height: 0.8mm; Capacitance: 33pF; Ceramic Type: NP0
footprint WCAP-CSGP_1206_L3.2W1.6H0.8
simulation model 1206_885012008020_33pF
pins: 1, 2

## 885012008021
designator C?, comment 47pF  (value not drawn)
WCAP-CSGP Multilayer Ceramic Chip Capacitor, General Purpose, size 1206, NP0, 47pF, 25VDC; Manufacturer Part Number: 885012008021; Manufacturer: Wurth Elektronik; Case/Size Code: 1206; Capacitance Tolerance: +/-5%; Insulation Resistance: 10GOhm; Q Factor: 1000; Rated Voltage (DC): 25V; Technical Reference: NP01206470J025DFCT10000; Category: Multilayer Ceramic Chip Capacitors; Match Code: WCAP-CSGP; ComponentLink1Description: Website Link; ComponentLink1URL: https://www.we-online.com/redexpert/article/885012008021?ad; ComponentLink2Description: Datasheet Link; ComponentLink2URL: https://www.we-online.com/redexpert/spec/885012008021?ad; Mount: Surface Mount; Operating Temperature Max: 125°C; Operating Temperature Min: -55°C; Packaging: Tape and Reel; Length: 3.2mm; Width: 1.6mm; Height: 0.8mm; Capacitance: 47pF; Ceramic Type: NP0
footprint WCAP-CSGP_1206_L3.2W1.6H0.8
simulation model 1206_885012008021_47pF
pins: 1, 2

## 885012008022
designator C?, comment 68pF  (value not drawn)
WCAP-CSGP Multilayer Ceramic Chip Capacitor, General Purpose, size 1206, NP0, 68pF, 25VDC; Manufacturer Part Number: 885012008022; Manufacturer: Wurth Elektronik; Case/Size Code: 1206; Capacitance Tolerance: +/-5%; Insulation Resistance: 10GOhm; Q Factor: 1000; Rated Voltage (DC): 25V; Technical Reference: NP01206680J025DFCT10000; Category: Multilayer Ceramic Chip Capacitors; Match Code: WCAP-CSGP; ComponentLink1Description: Website Link; ComponentLink1URL: https://www.we-online.com/redexpert/article/885012008022?ad; ComponentLink2Description: Datasheet Link; ComponentLink2URL: https://www.we-online.com/redexpert/spec/885012008022?ad; Mount: Surface Mount; Operating Temperature Max: 125°C; Operating Temperature Min: -55°C; Packaging: Tape and Reel; Length: 3.2mm; Width: 1.6mm; Height: 0.8mm; Capacitance: 68pF; Ceramic Type: NP0
footprint WCAP-CSGP_1206_L3.2W1.6H0.8
simulation model 1206_885012008022_68pF
pins: 1, 2

## 885012008023
designator C?, comment 100pF  (value not drawn)
WCAP-CSGP Multilayer Ceramic Chip Capacitor, General Purpose, size 1206, NP0, 100pF, 25VDC; Manufacturer Part Number: 885012008023; Manufacturer: Wurth Elektronik; Case/Size Code: 1206; Capacitance Tolerance: +/-5%; Insulation Resistance: 10GOhm; Q Factor: 1000; Rated Voltage (DC): 25V; Technical Reference: NP01206101J025DFCT10000; Category: Multilayer Ceramic Chip Capacitors; Match Code: WCAP-CSGP; ComponentLink1Description: Website Link; ComponentLink1URL: https://www.we-online.com/redexpert/article/885012008023?ad; ComponentLink2Description: Datasheet Link; ComponentLink2URL: https://www.we-online.com/redexpert/spec/885012008023?ad; Mount: Surface Mount; Operating Temperature Max: 125°C; Operating Temperature Min: -55°C; Packaging: Tape and Reel; Length: 3.2mm; Width: 1.6mm; Height: 0.8mm; Capacitance: 100pF; Ceramic Type: NP0
footprint WCAP-CSGP_1206_L3.2W1.6H0.8
simulation model 1206_885012008023_100pF
pins: 1, 2

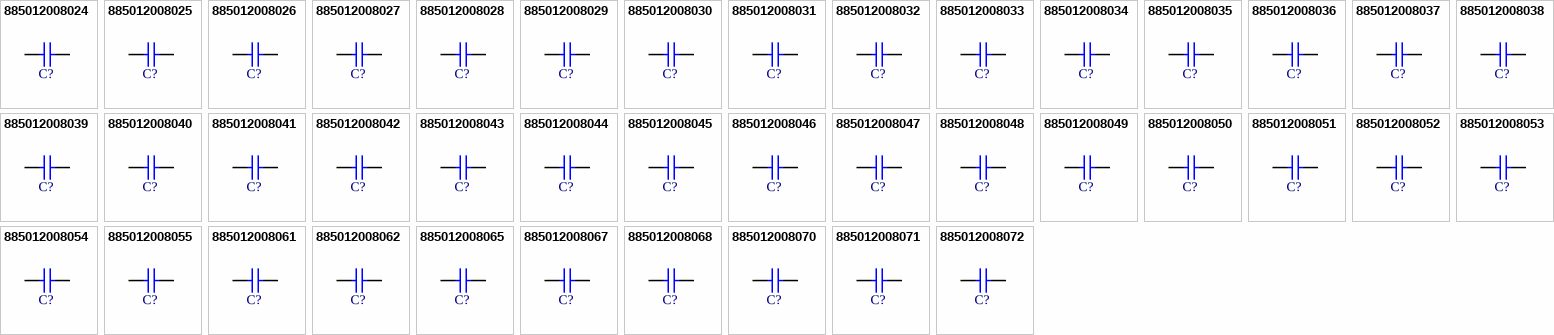
[diagram p7: symbols 885012008024 to 885012008072]

## 885012008024
designator C?, comment 330pF  (value not drawn)
WCAP-CSGP Multilayer Ceramic Chip Capacitor, General Purpose, size 1206, NP0, 330pF, 25VDC; Manufacturer Part Number: 885012008024; Manufacturer: Wurth Elektronik; Case/Size Code: 1206; Capacitance Tolerance: +/-5%; Insulation Resistance: 10GOhm; Q Factor: 1000; Rated Voltage (DC): 25V; Technical Reference: NP01206331J025DFCT10000; Category: Multilayer Ceramic Chip Capacitors; Match Code: WCAP-CSGP; ComponentLink1Description: Website Link; ComponentLink1URL: https://www.we-online.com/redexpert/article/885012008024?ad; ComponentLink2Description: Datasheet Link; ComponentLink2URL: https://www.we-online.com/redexpert/spec/885012008024?ad; Mount: Surface Mount; Operating Temperature Max: 125°C; Operating Temperature Min: -55°C; Packaging: Tape and Reel; Length: 3.2mm; Width: 1.6mm; Height: 0.8mm; Capacitance: 330pF; Ceramic Type: NP0
footprint WCAP-CSGP_1206_L3.2W1.6H0.8
simulation model 1206_885012008024_330pF
pins: 1, 2

## 885012008025
designator C?, comment 470pF  (value not drawn)
WCAP-CSGP Multilayer Ceramic Chip Capacitor, General Purpose, size 1206, NP0, 470pF, 25VDC; Manufacturer Part Number: 885012008025; Manufacturer: Wurth Elektronik; Case/Size Code: 1206; Capacitance Tolerance: +/-5%; Insulation Resistance: 10GOhm; Q Factor: 1000; Rated Voltage (DC): 25V; Technical Reference: NP01206471J025DFCT10000; Category: Multilayer Ceramic Chip Capacitors; Match Code: WCAP-CSGP; ComponentLink1Description: Website Link; ComponentLink1URL: https://www.we-online.com/redexpert/article/885012008025?ad; ComponentLink2Description: Datasheet Link; ComponentLink2URL: https://www.we-online.com/redexpert/spec/885012008025?ad; Mount: Surface Mount; Operating Temperature Max: 125°C; Operating Temperature Min: -55°C; Packaging: Tape and Reel; Length: 3.2mm; Width: 1.6mm; Height: 0.8mm; Capacitance: 470pF; Ceramic Type: NP0
footprint WCAP-CSGP_1206_L3.2W1.6H0.8
simulation model 1206_885012008025_470pF
pins: 1, 2

## 885012008026
designator C?, comment 1nF  (value not drawn)
WCAP-CSGP Multilayer Ceramic Chip Capacitor, General Purpose, size 1206, NP0, 1nF, 25VDC; Manufacturer Part Number: 885012008026; Manufacturer: Wurth Elektronik; Case/Size Code: 1206; Capacitance Tolerance: +/-5%; Insulation Resistance: 10GOhm; Q Factor: 1000; Rated Voltage (DC): 25V; Technical Reference: NP01206102J025DFCT10000; Category: Multilayer Ceramic Chip Capacitors; Match Code: WCAP-CSGP; ComponentLink1Description: Website Link; ComponentLink1URL: https://www.we-online.com/redexpert/article/885012008026?ad; ComponentLink2Description: Datasheet Link; ComponentLink2URL: https://www.we-online.com/redexpert/spec/885012008026?ad; Mount: Surface Mount; Operating Temperature Max: 125°C; Operating Temperature Min: -55°C; Packaging: Tape and Reel; Length: 3.2mm; Width: 1.6mm; Height: 0.8mm; Capacitance: 1nF; Ceramic Type: NP0
footprint WCAP-CSGP_1206_L3.2W1.6H0.8
simulation model 1206_885012008026_1nF
pins: 1, 2

## 885012008027
designator C?, comment 2.2nF  (value not drawn)
WCAP-CSGP Multilayer Ceramic Chip Capacitor, General Purpose, size 1206, NP0, 2.2nF, 25VDC; Manufacturer Part Number: 885012008027; Manufacturer: Wurth Elektronik; Case/Size Code: 1206; Capacitance Tolerance: +/-5%; Insulation Resistance: 10GOhm; Q Factor: 1000; Rated Voltage (DC): 25V; Technical Reference: NP01206222J025DFCT10000; Category: Multilayer Ceramic Chip Capacitors; Match Code: WCAP-CSGP; ComponentLink1Description: Website Link; ComponentLink1URL: https://www.we-online.com/redexpert/article/885012008027?ad; ComponentLink2Description: Datasheet Link; ComponentLink2URL: https://www.we-online.com/redexpert/spec/885012008027?ad; Mount: Surface Mount; Operating Temperature Max: 125°C; Operating Temperature Min: -55°C; Packaging: Tape and Reel; Length: 3.2mm; Width: 1.6mm; Height: 0.8mm; Capacitance: 2.2nF; Ceramic Type: NP0
footprint WCAP-CSGP_1206_L3.2W1.6H0.8
simulation model 1206_885012008027_2.2nF
pins: 1, 2

## 885012008028
designator C?, comment 4.7nF  (value not drawn)
WCAP-CSGP Multilayer Ceramic Chip Capacitor, General Purpose, size 1206, NP0, 4.7nF, 25VDC; Manufacturer Part Number: 885012008028; Manufacturer: Wurth Elektronik; Case/Size Code: 1206; Capacitance Tolerance: +/-5%; Insulation Resistance: 10GOhm; Q Factor: 1000; Rated Voltage (DC): 25V; Technical Reference: NP01206472J025DFCT10000; Category: Multilayer Ceramic Chip Capacitors; Match Code: WCAP-CSGP; ComponentLink1Description: Website Link; ComponentLink1URL: https://www.we-online.com/redexpert/article/885012008028?ad; ComponentLink2Description: Datasheet Link; ComponentLink2URL: https://www.we-online.com/redexpert/spec/885012008028?ad; Mount: Surface Mount; Operating Temperature Max: 125°C; Operating Temperature Min: -55°C; Packaging: Tape and Reel; Length: 3.2mm; Width: 1.6mm; Height: 0.8mm; Capacitance: 4.7nF; Ceramic Type: NP0
footprint WCAP-CSGP_1206_L3.2W1.6H0.8
simulation model 1206_885012008028_4.7nF
pins: 1, 2

## 885012008029
designator C?, comment 6.8nF  (value not drawn)
WCAP-CSGP Multilayer Ceramic Chip Capacitor, General Purpose, size 1206, NP0, 6.8nF, 25VDC; Manufacturer Part Number: 885012008029; Manufacturer: Wurth Elektronik; Case/Size Code: 1206; Capacitance Tolerance: +/-5%; Insulation Resistance: 10GOhm; Q Factor: 1000; Rated Voltage (DC): 25V; Technical Reference: NP01206682J025DFCT10000; Category: Multilayer Ceramic Chip Capacitors; Match Code: WCAP-CSGP; ComponentLink1Description: Website Link; ComponentLink1URL: https://www.we-online.com/redexpert/article/885012008029?ad; ComponentLink2Description: Datasheet Link; ComponentLink2URL: https://www.we-online.com/redexpert/spec/885012008029?ad; Mount: Surface Mount; Operating Temperature Max: 125°C; Operating Temperature Min: -55°C; Packaging: Tape and Reel; Length: 3.2mm; Width: 1.6mm; Height: 0.95mm; Capacitance: 6.8nF; Ceramic Type: NP0
footprint WCAP-CSGP_1206_L3.2W1.6H0.95
simulation model 1206_885012008029_6.8nF
pins: 1, 2

## 885012008030
designator C?, comment 10nF  (value not drawn)
WCAP-CSGP Multilayer Ceramic Chip Capacitor, General Purpose, size 1206, NP0, 10nF, 25VDC; Manufacturer Part Number: 885012008030; Manufacturer: Wurth Elektronik; Case/Size Code: 1206; Capacitance Tolerance: +/-5%; Insulation Resistance: 10GOhm; Q Factor: 1000; Rated Voltage (DC): 25V; Technical Reference: NP01206103J025DFCT10000; Category: Multilayer Ceramic Chip Capacitors; Match Code: WCAP-CSGP; ComponentLink1Description: Website Link; ComponentLink1URL: https://www.we-online.com/redexpert/article/885012008030?ad; ComponentLink2Description: Datasheet Link; ComponentLink2URL: https://www.we-online.com/redexpert/spec/885012008030?ad; Mount: Surface Mount; Operating Temperature Max: 125°C; Operating Temperature Min: -55°C; Packaging: Tape and Reel; Length: 3.2mm; Width: 1.6mm; Height: 1.25mm; Capacitance: 10nF; Ceramic Type: NP0
footprint WCAP-CSGP_1206_L3.2W1.6H1.25
simulation model 1206_885012008030_10nF
pins: 1, 2

## 885012008031
designator C?, comment 1pF  (value not drawn)
WCAP-CSGP Multilayer Ceramic Chip Capacitor, General Purpose, size 1206, NP0, 1pF, 50VDC; Manufacturer Part Number: 885012008031; Manufacturer: Wurth Elektronik; Case/Size Code: 1206; Capacitance Tolerance: +/-0.5pF; Insulation Resistance: 10GOhm; Q Factor: 420; Rated Voltage (DC): 50V; Technical Reference: NP012061R0D050DFCT10000; Category: Multilayer Ceramic Chip Capacitors; Match Code: WCAP-CSGP; ComponentLink1Description: Website Link; ComponentLink1URL: https://www.we-online.com/redexpert/article/885012008031?ad; ComponentLink2Description: Datasheet Link; ComponentLink2URL: https://www.we-online.com/redexpert/spec/885012008031?ad; Mount: Surface Mount; Operating Temperature Max: 125°C; Operating Temperature Min: -55°C; Packaging: Tape and Reel; Length: 3.2mm; Width: 1.6mm; Height: 0.8mm; Capacitance: 1pF; Ceramic Type: NP0
footprint WCAP-CSGP_1206_L3.2W1.6H0.8
pins: 1, 2

## 885012008032
designator C?, comment 1.5pF  (value not drawn)
WCAP-CSGP Multilayer Ceramic Chip Capacitor, General Purpose, size 1206, NP0, 1.5pF, 50VDC; Manufacturer Part Number: 885012008032; Manufacturer: Wurth Elektronik; Case/Size Code: 1206; Capacitance Tolerance: +/-0.5pF; Insulation Resistance: 10GOhm; Q Factor: 430; Rated Voltage (DC): 50V; Technical Reference: NP012061R5D050DFCT10000; Category: Multilayer Ceramic Chip Capacitors; Match Code: WCAP-CSGP; ComponentLink1Description: Website Link; ComponentLink1URL: https://www.we-online.com/redexpert/article/885012008032?ad; ComponentLink2Description: Datasheet Link; ComponentLink2URL: https://www.we-online.com/redexpert/spec/885012008032?ad; Mount: Surface Mount; Operating Temperature Max: 125°C; Operating Temperature Min: -55°C; Packaging: Tape and Reel; Length: 3.2mm; Width: 1.6mm; Height: 0.8mm; Capacitance: 1.5pF; Ceramic Type: NP0
footprint WCAP-CSGP_1206_L3.2W1.6H0.8
pins: 1, 2

## 885012008033
designator C?, comment 2.2pF  (value not drawn)
WCAP-CSGP Multilayer Ceramic Chip Capacitor, General Purpose, size 1206, NP0, 2.2pF, 50VDC; Manufacturer Part Number: 885012008033; Manufacturer: Wurth Elektronik; Case/Size Code: 1206; Capacitance Tolerance: +/-0.5pF; Insulation Resistance: 10GOhm; Q Factor: 444; Rated Voltage (DC): 50V; Technical Reference: NP012062R2D050DFCT10000; Category: Multilayer Ceramic Chip Capacitors; Match Code: WCAP-CSGP; ComponentLink1Description: Website Link; ComponentLink1URL: https://www.we-online.com/redexpert/article/885012008033?ad; ComponentLink2Description: Datasheet Link; ComponentLink2URL: https://www.we-online.com/redexpert/spec/885012008033?ad; Mount: Surface Mount; Operating Temperature Max: 125°C; Operating Temperature Min: -55°C; Packaging: Tape and Reel; Length: 3.2mm; Width: 1.6mm; Height: 0.8mm; Capacitance: 2.2pF; Ceramic Type: NP0
footprint WCAP-CSGP_1206_L3.2W1.6H0.8
pins: 1, 2

## 885012008034
designator C?, comment 3.3pF  (value not drawn)
WCAP-CSGP Multilayer Ceramic Chip Capacitor, General Purpose, size 1206, NP0, 3.3pF, 50VDC; Manufacturer Part Number: 885012008034; Manufacturer: Wurth Elektronik; Case/Size Code: 1206; Capacitance Tolerance: +/-0.5pF; Insulation Resistance: 10GOhm; Q Factor: 466; Rated Voltage (DC): 50V; Technical Reference: NP012063R3D050DFCT10000; Category: Multilayer Ceramic Chip Capacitors; Match Code: WCAP-CSGP; ComponentLink1Description: Website Link; ComponentLink1URL: https://www.we-online.com/redexpert/article/885012008034?ad; ComponentLink2Description: Datasheet Link; ComponentLink2URL: https://www.we-online.com/redexpert/spec/885012008034?ad; Mount: Surface Mount; Operating Temperature Max: 125°C; Operating Temperature Min: -55°C; Packaging: Tape and Reel; Length: 3.2mm; Width: 1.6mm; Height: 0.8mm; Capacitance: 3.3pF; Ceramic Type: NP0
footprint WCAP-CSGP_1206_L3.2W1.6H0.8
pins: 1, 2

## 885012008035
designator C?, comment 4.7pF  (value not drawn)
WCAP-CSGP Multilayer Ceramic Chip Capacitor, General Purpose, size 1206, NP0, 4.7pF, 50VDC; Manufacturer Part Number: 885012008035; Manufacturer: Wurth Elektronik; Case/Size Code: 1206; Capacitance Tolerance: +/-0.5pF; Insulation Resistance: 10GOhm; Q Factor: 494; Rated Voltage (DC): 50V; Technical Reference: NP012064R7D050DFCT10000; Category: Multilayer Ceramic Chip Capacitors; Match Code: WCAP-CSGP; ComponentLink1Description: Website Link; ComponentLink1URL: https://www.we-online.com/redexpert/article/885012008035?ad; ComponentLink2Description: Datasheet Link; ComponentLink2URL: https://www.we-online.com/redexpert/spec/885012008035?ad; Mount: Surface Mount; Operating Temperature Max: 125°C; Operating Temperature Min: -55°C; Packaging: Tape and Reel; Length: 3.2mm; Width: 1.6mm; Height: 0.8mm; Capacitance: 4.7pF; Ceramic Type: NP0
footprint WCAP-CSGP_1206_L3.2W1.6H0.8
pins: 1, 2